# EAGLE library part USBLC6-2SC6 (library USBLC6-2SC6)
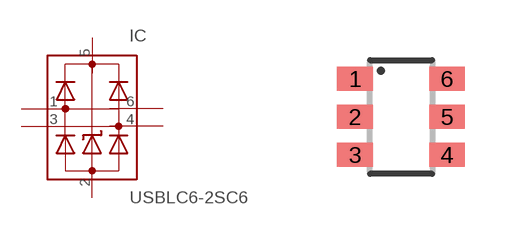
[diagram p0: symbol with the pads of SOT23-6; footprint SOT23-6]

Designator prefix IC

## USBLC6-2SC6 (MPN: USBLC6-2SC6)  [SOT23-6]
1  IO11  pas
2  GND  pas
3  IO21  pas
4  IO22  pas
5  VCC  pas
6  IO12  pas

## Footprint SOT23-6 (pad centres in mm)
Small Outline Transistor 6 lead
smd 0.9 x 0.6: 1 -1.15,0.95; 2 -1.15,0; 3 -1.15,-0.95; 4 1.15,-0.95; 5 1.15,0; 6 1.15,0.95